# EAGLE library part MA06-1 (library Mine)
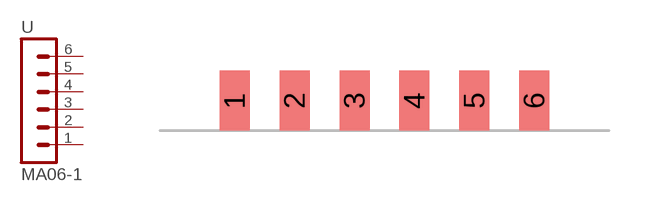
[diagram p79: symbol with the pads of MA06-1-SMD; footprint MA06-1-SMD]

Designator prefix -

## MA06-1  [MA06-1-SMD]
1  1  pas
2  2  pas
3  3  pas
4  4  pas
5  5  pas
6  6  pas

## Footprint MA06-1-SMD (pad centres in mm)
smd 1.27 x 2.54: 1 -7.62,0; 2 -5.08,0; 3 -2.54,0; 4 0,0; 5 2.54,0; 6 5.08,0